# EAGLE library part TPA6211 (library hugo)
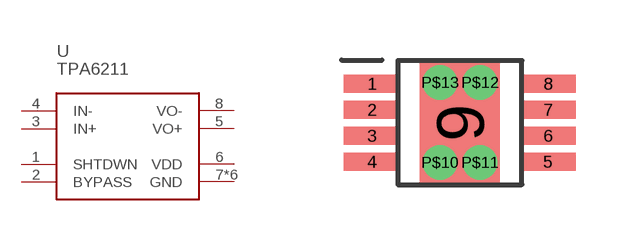
[diagram p5: symbol with the pads of MSOP-POWERPAD-8; footprint MSOP-POWERPAD-8]

Designator prefix -

## TPA6211  [MSOP-POWERPAD-8]
1  SHTDWN
2  BYPASS
3  IN+
4  IN-
5  VO+
6  VDD
7  GND
8  VO-
9  GND
P$10  GND
P$11  GND
P$12  GND
P$13  GND

## Footprint MSOP-POWERPAD-8 (pad centres in mm)
smd 1.4 x 0.45: 1 -2.184,0.959; 2 -2.184,0.309; 3 -2.184,-0.341; 4 -2.184,-0.991; 5 2.216,-0.991; 6 2.216,-0.341; 7 2.216,0.309; 8 2.216,0.959
smd 2 x 3: 9 0.016,-0.016
drill 0.35: P$10 -0.484,-1.016; P$11 0.516,-1.016; P$12 0.516,0.984; P$13 -0.484,0.984